# EAGLE library part SENSOR_MMA8653 (library akita)
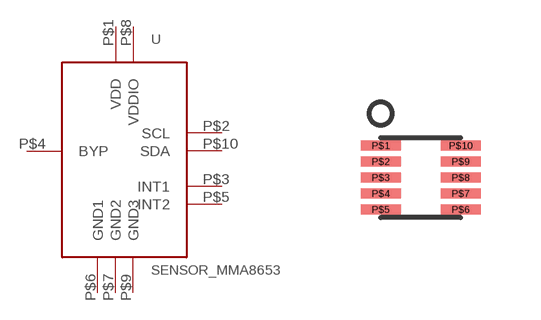
[diagram p59: symbol with the pads of DFN10_0.4MM; footprint DFN10_0.4MM]

Designator prefix -

## SENSOR_MMA8653  [DFN10_0.4MM]
P$1  VDD
P$2  SCL
P$3  INT1
P$4  BYP
P$5  INT2
P$6  GND1
P$7  GND2
P$8  VDDIO
P$9  GND3
P$10  SDA

## Footprint DFN10_0.4MM (pad centres in mm)
smd 1 x 0.25: P$1 -1,0.8; P$2 -1,0.4; P$3 -1,0; P$4 -1,-0.4; P$5 -1,-0.8; P$6 1,-0.8; P$7 1,-0.4; P$8 1,0; P$9 1,0.4; P$10 1,0.8